# Altium schematic symbol library GRM21BR60J107ME15K.SchLib: 1 symbol
Pins are listed as number, name and electrical type; pins without a type are passive.

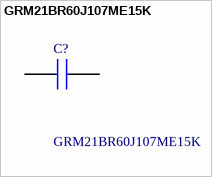
[diagram p0: symbol GRM21BR60J107ME15K]

## GRM21BR60J107ME15K
designator C?
Capacitor GRM21_0.20 L=2.0mm W=1.25mm T=1.25mm; Manufacturer_Name: Murata Electronics; Geometry.Height: 1.45mm; Mouser Part Number: 81-GRM21BR60J107ME5K; Mouser Price/Stock: https://www.mouser.co.uk/ProductDetail/Murata-Electronics/GRM21BR60J107ME15K?qs=Ey7%2FXF42M3ey7cnxiIYXug%3D%3D; Manufacturer_Part_Number: GRM21BR60J107ME15K; Datasheet Link: https://psearch.en.murata.com/capacitor/product/GRM21BR60J107ME15%23.html
footprint CAPC2012X145N
pins: 1, 2